# EAGLE library part T821M110A1S100CEUB (library con-amphenol-idc)
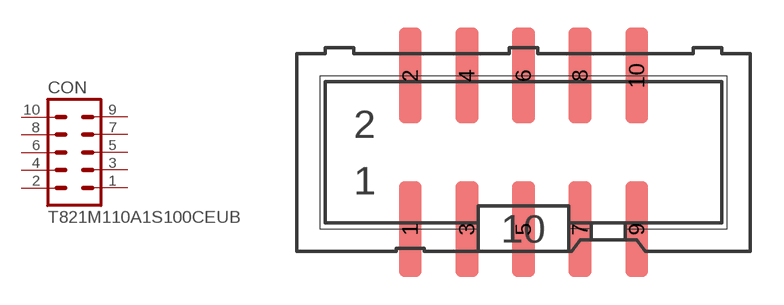
[diagram p0: symbol with the pads of T821M110A1S100CEUB; footprint T821M110A1S100CEUB]

Designator prefix CON

## T821M110A1S100CEUB  [T821M110A1S100CEUB]
1  1  pas
2  2  pas
3  3  pas
4  4  pas
5  5  pas
6  6  pas
7  7  pas
8  8  pas
9  9  pas
10  10  pas

## Footprint T821M110A1S100CEUB (pad centres in mm)
smd 1.02 x 4.3: 1 -5.08,-3.45; 2 -5.08,3.45; 3 -2.54,-3.45; 4 -2.54,3.45; 5 0,-3.45; 6 0,3.45; 7 2.54,-3.45; 8 2.54,3.45; 9 5.08,-3.45; 10 5.08,3.45